# Altium schematic symbol library Main_SCBLIB.SchLib: 5 symbols
Pins are listed as number, name and electrical type; pins without a type are passive.

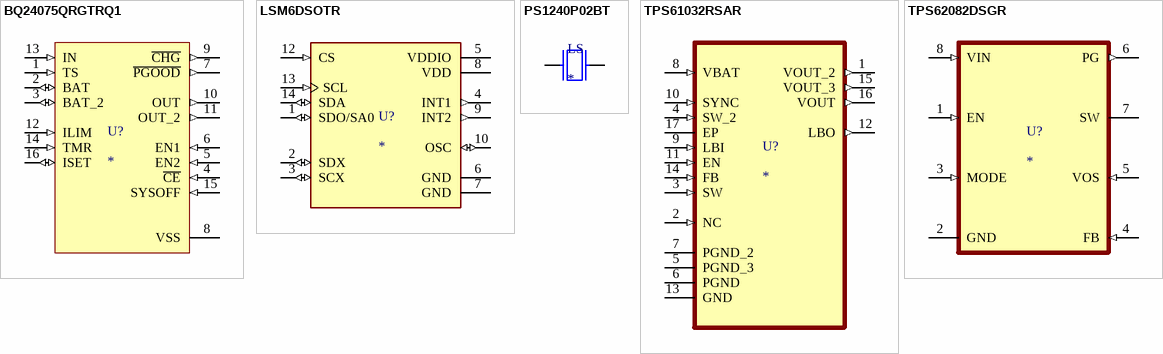
[diagram p0: symbols BQ24075QRGTRQ1 to TPS62082DSGR]

## BQ24075QRGTRQ1
designator U?
BQ24075-Q1 Automotive 4.35V to 1; Manufacturer: Texas Instruments; Manufacturer Part Number: BQ24075QRGTRQ1; Output Voltage: 4.2V; Max Supply Voltage: 6.4V; Output Current: 1.5A; Number of Cells: 1; Interface: USB; Fault Protection: Over Voltage,Over Temperature,Short Circuit,Reverse Current; Battery Chemistry: LITHIUM-ION; Supplier 1: Digi-Key; Supplier Part Number 1: 296-36557-1-ND; RoHS: Yes; Category: Battery Management; Pricing 1: 1=2.84000, 10=2.54800, 25=2.40880, 100=2.08770, 250=1.98060, 500=1.77720, 1000=1.76750 (USD); Mount: Surface Mount; Case/Package: QFN; Number of Pins: 16; Contact Plating: Gold; Min Operating Temperature: -40°C; Max Operating Temperature: 125°C; Packaging: Tape and Reel; Package Quantity: 3000; Max Charge Current: 1.5A; Battery Pack Voltage: 4.2V; Series: -; Lead Free: Lead Free; RoHS Compliant: Yes; ComponentLink1URL: https://datasheet.ciiva.com/29609/bq24075-q1-29609824.pdf?src-supplier=Digi-Key; ComponentLink1Description: https://datasheet.ciiva.com/29609/bq24075-q1-29609824.pdf?src-supplier=Digi-Key; ComponentLink2URL: https://datasheet.ciiva.com/12237/slusau3b-128558-12237294.pdf?src-supplier=Mouser; ComponentLink2Description: https://datasheet.ciiva.com/12237/slusau3b-128558-12237294.pdf?src-supplier=Mouser
footprint BQ24075QRGTRQ1 (Lipo charger)
pins: 1 TS (in), 2 BAT (io), 3 BAT_2 (io), 4 ~{CE} (in), 5 EN2 (in), 6 EN1 (in), 7 ~{PGOOD} (out), 8 VSS (power), 9 ~{CHG} (out), 10 OUT (out), 11 OUT_2 (out), 12 ILIM (in), 13 IN (in), 14 TMR (in), 15 SYSOFF (in), 16 ISET (io)

## LSM6DSOTR
designator U?
Accelerometer and Gyroscope Digital Output 1.8V 14-Pin VFLGA T/R; Manufacturer: STMicroelectronics; Manufacturer Part Number: LSM6DSOTR; Sensor Type: Accelerometer,Gyroscope,3 Axis; Output Type: SPI,I2C; Supplier 1: Digi-Key; Supplier Part Number 1: 497-18181-6-ND; RoHS: Yes; Category: Inertial Measurement Units (IMUs); Pricing 1: 1=5.46000, 10=4.90000, 25=4.63240, 100=4.01470, 500=3.43140 (USD); Mount: Surface Mount; Case/Package: LGA; Min Operating Temperature: -40°C; Max Operating Temperature: 85°C; Packaging: Cut Tape; RoHS Compliant: Yes; ComponentLink1URL: http://www.farnell.com/datasheets/2710914.pdf?src-supplier=Farnell; ComponentLink1Description: http://www.farnell.com/datasheets/2710914.pdf?src-supplier=Farnell; ComponentLink2URL: https://www.st.com/resource/en/datasheet/lsm6dso.pdf?src-supplier=Digi-Key; ComponentLink2Description: https://www.st.com/resource/en/datasheet/lsm6dso.pdf?src-supplier=Digi-Key; ComponentLink3URL: http://www.farnell.com/datasheets/2710914.pdf?src-supplier=Newark; ComponentLink3Description: http://www.farnell.com/datasheets/2710914.pdf?src-supplier=Newark; Supplier 2: Digi-Key; Supplier Part Number 2: 497-18181-1-ND; Pricing 2: 1=5.46000, 10=4.90000, 25=4.63240, 100=4.01470, 500=3.43140 (USD)
footprint LSM6DSOTR (LSM6DSO Accelero)
pins: 1 SDO/SA0 (io), 2 SDX (io), 3 SCX (io), 4 INT1 (out), 5 VDDIO (power), 6 GND (power), 7 GND (power), 8 VDD (power), 9 INT2 (out), 10 OSC (io), 12 CS (in), 13 SCL (in), 14 SDA (io)

## PS1240P02BT
designator LS
TDK - PS1240P02BT - BUZZER, PIEZO, 70DB, 12.2MM; Number of Terminals/Pins: 2; Frequency: 4kHz; Operating Supply Voltage: 3V; Washable: No; MP: PS1240P02BT; Availability: Unavailable; Package: 2020 TDK; MF: TDK; Value: *; Price: None; SnapEDA_Link: https://www.snapeda.com/parts/PS1240P02BT/TDK/view-part/53420/?ref=snap; Supplier 1: Digi-Key; Supplier Part Number 1: 445-2525-1-ND; Manufacturer: TDK; Manufacturer Part Number: PS1240P02BT; RoHS: Yes; Category: Audio Products; Stock 1: 31933; Pricing 1: 1=0.61000, 10=0.52500, 25=0.49120, 50=0.46580, 100=0.44110 (USD); Mount: Through Hole; Number of Pins: 2; Min Operating Temperature: -10°C; Max Operating Temperature: 70°C; Termination: PC Pins; Package Quantity: 1; Packaging: Tape and Reel; Voltage Rating (DC): 3V; Series: PS; Diameter: 12.2mm; Height: 6.5mm; Lead Free: Lead Free; RoHS Compliant: Yes; ComponentLink1URL: https://datasheet.ciiva.com/0/ef532-ps-112.pdf?src-supplier=Digi-Key; ComponentLink1Description: https://datasheet.ciiva.com/0/ef532-ps-112.pdf?src-supplier=Digi-Key; ComponentLink2URL: https://datasheet.ciiva.com/0/ef532-ps-111.pdf?src-supplier=Digi-Key; ComponentLink2Description: https://datasheet.ciiva.com/0/ef532-ps-111.pdf?src-supplier=Digi-Key; ComponentLink3URL: https://datasheet.ciiva.com/3306/ef532-ps-3306958.pdf?src-supplier=Avnet; ComponentLink3Description: https://datasheet.ciiva.com/3306/ef532-ps-3306958.pdf?src-supplier=Avnet; ComponentLink4URL: https://datasheet.ciiva.com/16225/ef532-ps-16225062.pdf?src-supplier=Onlinecomponents.com; ComponentLink4Description: https://datasheet.ciiva.com/16225/ef532-ps-16225062.pdf?src-supplier=Onlinecomponents.com
footprint PS1240P02BT (Buzzer)
pins: 1, 2

## TPS61032RSAR
designator U?
5-V Output, 1-A, 96% Efficient Boost Converter w/20uA Iq in TSSOP-16 16-QFN -40 to 85; MF: Texas Instruments; MP: TPS61032RSAR; Number of Outputs: 1; Output Voltage: 5V; Output Current: 1A; Min Input Voltage: 1.8V; Max Input Voltage: 5.5V; Switching Frequency: 600kHz; Synchronous Rectifier: Yes; Quiescent Current: 20uA; Output Type: Fixed; Output Configuration: Positive; Value: *; Package: VQFN-16 Texas Instruments; SnapEDA_Link: https://www.snapeda.com/parts/TPS61032RSAR/Texas%20Instruments/view-part/382090/?ref=snap; Price: None; Availability: Unavailable; Supplier 1: Digi-Key; Supplier Part Number 1: 296-16662-1-ND; Manufacturer: Texas Instruments; Manufacturer Part Number: TPS61032RSAR; RoHS: Yes; Category: Voltage Regulators - Switching; Stock 1: 1042; Pricing 1: 1=3.13000, 10=2.80800, 25=2.65440, 100=2.30060, 250=2.18260, 500=1.95844, 1000=1.94775 (USD); Mount: Surface Mount; Case/Package: VQFN; Number of Pins: 16; Weight: 0.001464oz; Min Operating Temperature: -40°C; Max Operating Temperature: 85°C; Efficiency: 96%; Packaging: Tape and Reel; Package Quantity: 1; Max Output Current: 1A; Topology: Boost; Operating Supply Voltage: 5.5V; Series: -; Min Output Voltage: 5V; Nominal Output Voltage: 5V; Width: 4mm; Radiation Hardening: No; Lead Free: Lead Free; RoHS Compliant: Yes; REACH SVHC: No SVHC; ComponentLink1URL: https://datasheet.ciiva.com/15113/getdatasheetpartid-188315-15113727.pdf?src-supplier=Verical; ComponentLink1Description: https://datasheet.ciiva.com/15113/getdatasheetpartid-188315-15113727.pdf?src-supplier=Verical; ComponentLink2URL: https://datasheet.ciiva.com/26896/tps61032rsar-26896598.pdf?src-supplier=IIIC; ComponentLink2Description: https://datasheet.ciiva.com/26896/tps61032rsar-26896598.pdf?src-supplier=IIIC; ComponentLink3URL: https://datasheet.ciiva.com/2026/tps61030-2026189.pdf?src-supplier=Digi-Key; ComponentLink3Description: https://datasheet.ciiva.com/2026/tps61030-2026189.pdf?src-supplier=Digi-Key; ComponentLink4URL: https://datasheet.ciiva.com/2026/tps61030-2026190.pdf?src-supplier=Digi-Key; ComponentLink4Description: https://datasheet.ciiva.com/2026/tps61030-2026190.pdf?src-supplier=Digi-Key; ComponentLink5URL: https://datasheet.ciiva.com/2026/tps61030-2026191.pdf?src-supplier=Digi-Key; ComponentLink5Description: https://datasheet.ciiva.com/2026/tps61030-2026191.pdf?src-supplier=Digi-Key; ComponentLink6URL: https://datasheet.ciiva.com/22684/1902788-22684647.pdf?src-supplier=Element14; ComponentLink6Description: https://datasheet.ciiva.com/22684/1902788-22684647.pdf?src-supplier=Element14
footprint TPS61032RSAR (DC/DC boost to 5V)
pins: 1 VOUT_2 (out), 2 NC (in), 3 SW (in), 4 SW_2 (in), 5 PGND_3, 6 PGND, 7 PGND_2, 8 VBAT (in), 9 LBI (in), 10 SYNC (in), 11 EN (in), 12 LBO (out), 13 GND, 14 FB (in), 15 VOUT_3 (out), 16 VOUT (out), 17 EP

## TPS62082DSGR
designator U?
IC REG BUCK 3.3V 1.2A 8WSON / 1.2A High Efficient Step Down Converter with Snooze Mode; MF: Texas Instruments; MP: TPS62082DSGR; Number of Outputs: 1; Max Input Voltage: 6V; Min Input Voltage: 2.3V; Switching Frequency: 2MHz; Synchronous Rectifier: Yes; Quiescent Current: 6uA; Output Type: Fixed; Output Configuration: Positive; SnapEDA_Link: https://www.snapeda.com/parts/TPS62082DSGR/Texas%20Instruments/view-part/232318/?ref=snap; Digi-Key_Part_Number: 296-49331-1-ND; Purchase-URL: https://pricing.snapeda.com/search/part/TPS62082DSGR/?ref=eda; Value: *; Package: WSON-8 Texas Instruments; Check_prices: https://www.snapeda.com/parts/TPS62082DSGR/Texas%20Instruments/view-part/232318/?ref=eda; Supplier 1: Digi-Key; Supplier Part Number 1: 296-49331-1-ND; Manufacturer: Texas Instruments; Manufacturer Part Number: TPS62082DSGR; RoHS: Yes; Category: Voltage Regulators - Switching; Stock 1: 3633; Pricing 1: 1=1.73000, 10=1.55100, 25=1.46280, 100=1.24630, 250=1.17024, 500=1.02396, 1000=0.96600 (USD); Number of Pins: 8; Contact Plating: Gold; Min Operating Temperature: -40°C; Max Operating Temperature: 125°C; Output Voltage: 3.3V; Output Current: 1.2A; Packaging: Tape and Reel; Package Quantity: 3000; Max Output Current: 1.2A; Min Output Voltage: 3.3V; Max Output Voltage: 3.3V; Operating Supply Voltage: 6V; Series: DCS-Control™; Lead Free: Lead Free; RoHS Compliant: Yes; ComponentLink1URL: http://components.arrow.com/part/dataview/51571754S9131416N7713?src-supplier=Arrow+Electronics; ComponentLink1Description: http://components.arrow.com/part/dataview/51571754S9131416N7713?src-supplier=Arrow+Electronics; ComponentLink2URL: http://components.arrow.com/part/dataview/0323_03938012?src-supplier=Arrow+Europe; ComponentLink2Description: http://components.arrow.com/part/dataview/0323_03938012?src-supplier=Arrow+Europe; ComponentLink3URL: http://www.ti.com/lit/ds/symlink/tps62080.pdf?src-supplier=Digi-Key; ComponentLink3Description: http://www.ti.com/lit/ds/symlink/tps62080.pdf?src-supplier=Digi-Key; ComponentLink4URL: http://www.ti.com/general/docs/suppproductinfo.tsp?distId=10&amp;gotoUrl=http%3A%2F%2Fwww.ti.com%2Flit%2Fgpn%2Ftps62080&src-supplier=Digi-Key; ComponentLink4Description: http://www.ti.com/general/docs/suppproductinfo.tsp?distId=10&amp;gotoUrl=http%3A%2F%2Fwww.ti.com%2Flit%2Fgpn%2Ftps62080&src-supplier=Digi-Key; ComponentLink5URL: http://www.ti.com/lit/gpn/tps62082?src-supplier=Mouser; ComponentLink5Description: http://www.ti.com/lit/gpn/tps62082?src-supplier=Mouser; ComponentLink6URL: http://www.ti.com/general/docs/lit/getliterature.tsp?genericPartNumber=TPS62080A&&fileType=pdf&src-supplier=Avnet; ComponentLink6Description: http://www.ti.com/general/docs/lit/getliterature.tsp?genericPartNumber=TPS62080A&&fileType=pdf&src-supplier=Avnet; ComponentLink7URL: http://www.ti.com/general/docs/lit/getliterature.tsp?genericPartNumber=TPS62080A&&fileType=pdf&src-supplier=Avnet+Asia; ComponentLink7Description: http://www.ti.com/general/docs/lit/getliterature.tsp?genericPartNumber=TPS62080A&&fileType=pdf&src-supplier=Avnet+Asia
footprint TPS62082DSGR (IC REG BUCK 3.3V 1.2A 8WSON)
pins: 1 EN (in), 2 GND (power), 3 MODE (in), 4 FB (in), 5 VOS (in), 6 PG (out), 7 SW (power), 8 VIN (in)